# Altium schematic symbol library REF3030AIDBZR.SchLib: 1 symbol
Pins are listed as number, name and electrical type; pins without a type are passive.

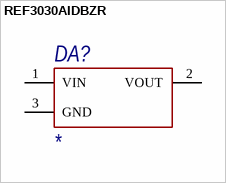
[diagram p0: symbol REF3030AIDBZR]

## REF3030AIDBZR
designator DA?
pins: 1 VIN, 2 VOUT, 3 GND